# EAGLE library part MC33063AP1G (library on-semiconductor-01)
Regulators
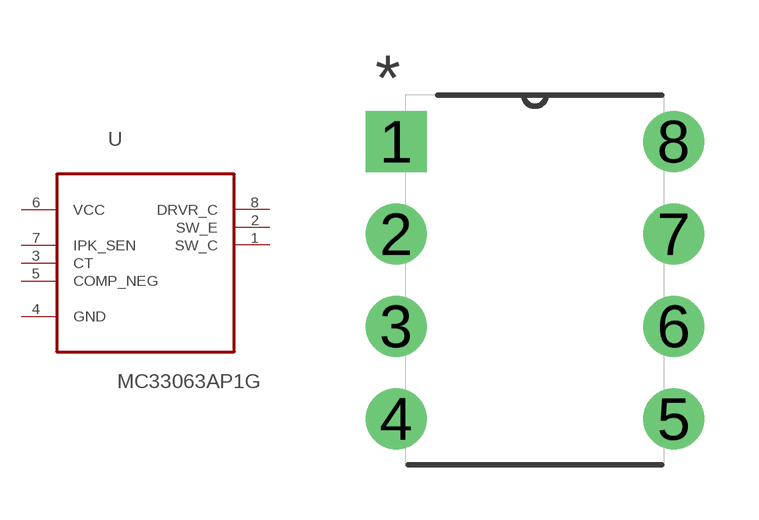
[diagram p325: symbol with the pads of DIP254P762X533-8; footprint DIP254P762X533-8]

Designator prefix U

## MC33063AP1G (MPN: MC33063AP1G; OC_FARNELL: 9664432; OC_NEWARK: 45J1156; PACKAGE: PDIP-8; SUPPLIER: ON SEMICONDUCTOR)  [DIP254P762X533-8]
1  SW_C  pas
2  SW_E  pas
3  CT  in
4  GND  pas
5  COMP_NEG  in
6  VCC  pwr
7  IPK_SEN  in
8  DRVR_C  pas

## Footprint DIP254P762X533-8 (pad centres in mm)
drill 1.118 square: 1 -7.62,7.62
drill 1.118: 2 -7.62,5.08; 3 -7.62,2.54; 4 -7.62,0; 5 0,0; 6 0,2.54; 7 0,5.08; 8 0,7.62